# Altium integrated library Quartz Altium_WE-XTAL+(rev20c).IntLib: 317 symbols (part 4 of 5)
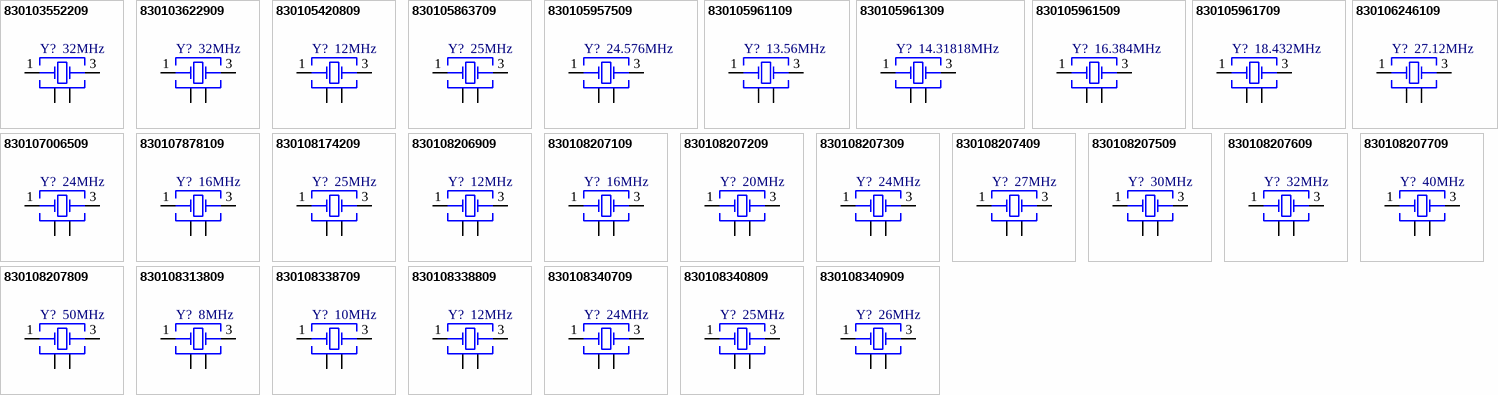
[diagram p19: symbols 830103552209 to 830108340909]

## 830105863709
designator Y?, comment 25MHz
WE-XTAL Quartz Crystal, SMT, CFPX-180, 25MHz, +/-30ppm; Manufacturer Part Number: 830105863709; Manufacturer: Wurth Elektronik; Load Capacitance: 12pF; ComponentLink1Description: Manufacturer; ComponentLink1URL: http://www.we-online.de; ComponentLink2Description: Datasheet; ComponentLink2URL: https://www.we-online.com/catalog/datasheet/830105863709.pdf; Operating Temperature: -40 to +85degC; Packaging: Tape and Reel; Published Date: November 2020; Size: CFPX-180; Frequency Stability: +/-30ppm; Frequency: 25MHz; Frequency Tolerance: +/-30ppm; Mounting Technology: SMT
footprint WE-XTAL_CFPX-180
pins: 1 Crystal, 2 GND&Lid, 3 Crystal, 4 GND&Lid

## 830105957509
designator Y?, comment 24.576MHz
WE-XTAL Quartz Crystal, SMT, CFPX-180, 24.576MHz, +/-20ppm; Manufacturer Part Number: 830105957509; Manufacturer: Wurth Elektronik; Frequency Stability: +/-30ppm; Load Capacitance: 18pF; ComponentLink1Description: Manufacturer; ComponentLink1URL: http://www.we-online.de; ComponentLink2Description: Datasheet; ComponentLink2URL: https://katalog.we-online.com/pbs/datasheet/830105957509.pdf; Operating Temperature: -40 to +85degC; Packaging: Tape and Reel; Published Date: July 2020; Size: CFPX-180; Frequency: 24.576MHz; Frequency Tolerance: +/-20ppm; Mounting Technology: SMT
footprint WE-XTAL_CFPX-180
pins: 1 Crystal, 2 GND, 3 Crystal, 4 GND

## 830105961109
designator Y?, comment 13.56MHz
WE-XTAL Quartz Crystal, SMT, CFPX-180, 13.56MHz, +/-20ppm; Manufacturer Part Number: 830105961109; Manufacturer: Wurth Elektronik; Frequency Stability: +/-30ppm; Load Capacitance: 18pF; ComponentLink1Description: Manufacturer; ComponentLink1URL: http://www.we-online.de; ComponentLink2Description: Datasheet; ComponentLink2URL: https://www.we-online.com/catalog/datasheet/830105961109.pdf; Operating Temperature: -40 to +85degC; Packaging: Tape and Reel; Published Date: November 2020; Size: CFPX-180; Frequency: 13.56MHz; Frequency Tolerance: +/-20ppm; Mounting Technology: SMT
footprint WE-XTAL_CFPX-180
pins: 1 Crystal, 2 GND&Lid, 3 Crystal, 4 GND&Lid

## 830105961309
designator Y?, comment 14.31818MHz
WE-XTAL Quartz Crystal, SMT, CFPX-180, 14.31818MHz, +/-20ppm; Manufacturer Part Number: 830105961309; Manufacturer: Wurth Elektronik; Frequency Stability: +/-30ppm; Load Capacitance: 18pF; ComponentLink1Description: Manufacturer; ComponentLink1URL: http://www.we-online.de; ComponentLink2Description: Datasheet; ComponentLink2URL: https://www.we-online.com/catalog/datasheet/830105961309.pdf; Operating Temperature: -40 to +85degC; Packaging: Tape and Reel; Published Date: November 2020; Size: CFPX-180; Frequency: 14.31818MHz; Frequency Tolerance: +/-20ppm; Mounting Technology: SMT
footprint WE-XTAL_CFPX-180
pins: 1 Crystal, 2 GND, 3 Crystal, 4 GND

## 830105961509
designator Y?, comment 16.384MHz
WE-XTAL Quartz Crystal, SMT, CFPX-180, 16.384MHz, +/-20ppm; Manufacturer Part Number: 830105961509; Manufacturer: Wurth Elektronik; Frequency Stability: +/-30ppm; Load Capacitance: 18pF; ComponentLink1Description: Manufacturer; ComponentLink1URL: http://www.we-online.de; ComponentLink2Description: Datasheet; ComponentLink2URL: https://katalog.we-online.com/pbs/datasheet/830105961509.pdf; Operating Temperature: -40 to +85degC; Packaging: Tape and Reel; Published Date: July 2020; Size: CFPX-180; Frequency: 16.384MHz; Frequency Tolerance: +/-20ppm; Mounting Technology: SMT
footprint WE-XTAL_CFPX-180
pins: 1 Crystal, 2 GND, 3 Crystal, 4 GND

## 830105961709
designator Y?, comment 18.432MHz
WE-XTAL Quartz Crystal, SMT, CFPX-180, 18.432MHz, +/-20ppm; Manufacturer Part Number: 830105961709; Manufacturer: Wurth Elektronik; Frequency Stability: +/-30ppm; Load Capacitance: 18pF; ComponentLink1Description: Manufacturer; ComponentLink1URL: http://www.we-online.de; ComponentLink2Description: Datasheet; ComponentLink2URL: https://katalog.we-online.com/pbs/datasheet/830105961709.pdf; Operating Temperature: -40 to +85degC; Packaging: Tape and Reel; Published Date: July 2020; Size: CFPX-180; Frequency: 18.432MHz; Frequency Tolerance: +/-20ppm; Mounting Technology: SMT
footprint WE-XTAL_CFPX-180
pins: 1 Crystal, 2 GND, 3 Crystal, 4 GND

## 830106246109
designator Y?, comment 27.12MHz
WE-XTAL Quartz Crystal, SMT, CFPX-180, 27.12MHz, +/-10ppm; Manufacturer Part Number: 830106246109; Manufacturer: Wurth Elektronik; Frequency Stability: +/-20ppm; Load Capacitance: 10pF; ComponentLink1Description: Manufacturer; ComponentLink1URL: http://www.we-online.de; ComponentLink2Description: Datasheet; ComponentLink2URL: https://katalog.we-online.com/pbs/datasheet/830106246109.pdf; Operating Temperature: -40 to +85degC; Packaging: Tape and Reel; Published Date: July 2020; Size: CFPX-180; Frequency: 27.12MHz; Frequency Tolerance: +/-10ppm; Mounting Technology: SMT
footprint WE-XTAL_CFPX-180
pins: 1 Crystal, 2 GND, 3 Crystal, 4 GND

## 830107006509
designator Y?, comment 24MHz
WE-XTAL Quartz Crystal, SMT, CFPX-180, 24MHz, +/-10ppm; Manufacturer Part Number: 830107006509; Manufacturer: Wurth Elektronik; Frequency Stability: +/-15ppm; Load Capacitance: 9pF; ComponentLink1Description: Manufacturer; ComponentLink1URL: http://www.we-online.de; ComponentLink2Description: Datasheet; ComponentLink2URL: https://katalog.we-online.com/pbs/datasheet/830107006509.pdf; Operating Temperature: -40 to +85degC; Packaging: Tape and Reel; Published Date: July 2020; Size: CFPX-180; Frequency: 24MHz; Frequency Tolerance: +/-10ppm; Mounting Technology: SMT
footprint WE-XTAL_CFPX-180
pins: 1 Crystal, 2 GND, 3 Crystal, 4 GND

## 830107878109
designator Y?, comment 16MHz
WE-XTAL Quartz Crystal, SMT, CFPX-180, 16MHz, +/-30ppm; Manufacturer Part Number: 830107878109; Manufacturer: Wurth Elektronik; Frequency Stability: +/-50ppm; Load Capacitance: 12pF; ComponentLink1Description: Manufacturer; ComponentLink1URL: http://www.we-online.de; ComponentLink2Description: Datasheet; ComponentLink2URL: https://www.we-online.com/catalog/datasheet/830107878109.pdf; Operating Temperature: -40 to +125degC; Packaging: Tape and Reel; Published Date: November 2020; Size: CFPX-180; Frequency: 16MHz; Frequency Tolerance: +/-30ppm; Mounting Technology: SMT
footprint WE-XTAL_CFPX-180
pins: 1 Crystal, 2 GND&Lid, 3 Crystal, 4 GND&Lid

## 830108174209
designator Y?, comment 25MHz
WE-XTAL Quartz Crystal, SMT, CFPX-180, 25MHz, +/-10ppm; Manufacturer Part Number: 830108174209; Manufacturer: Wurth Elektronik; Frequency Stability: +/-15ppm; Load Capacitance: 10pF; ComponentLink1Description: Manufacturer; ComponentLink1URL: http://www.we-online.de; ComponentLink2Description: Datasheet; ComponentLink2URL: https://katalog.we-online.com/pbs/datasheet/830108174209.pdf; Operating Temperature: -40 to +85degC; Packaging: Tape and Reel; Published Date: July 2020; Size: CFPX-180; Frequency: 25MHz; Frequency Tolerance: +/-10ppm; Mounting Technology: SMT
footprint WE-XTAL_CFPX-180
pins: 1 Crystal, 2 GND, 3 Crystal, 4 GND

## 830108206909
designator Y?, comment 12MHz
WE-XTAL Quartz Crystal, SMT, CFPX-180, 12MHz, +/-10ppm; Manufacturer Part Number: 830108206909; Manufacturer: Wurth Elektronik; Frequency Stability: +/-20ppm; Load Capacitance: 8pF; ComponentLink1Description: Manufacturer; ComponentLink1URL: http://www.we-online.de; ComponentLink2Description: Datasheet; ComponentLink2URL: https://katalog.we-online.com/pbs/datasheet/830108206909.pdf; Operating Temperature: -40 to +85degC; Packaging: Tape and Reel; Published Date: July 2020; Size: CFPX-180; Frequency: 12MHz; Frequency Tolerance: +/-10ppm; Mounting Technology: SMT
footprint WE-XTAL_CFPX-180
pins: 1 Crystal, 2 GND, 3 Crystal, 4 GND

## 830108207109
designator Y?, comment 16MHz
WE-XTAL Quartz Crystal, SMT, CFPX-180, 16MHz, +/-10ppm; Manufacturer Part Number: 830108207109; Manufacturer: Wurth Elektronik; Frequency Stability: +/-20ppm; Load Capacitance: 8pF; ComponentLink1Description: Manufacturer; ComponentLink1URL: http://www.we-online.de; ComponentLink2Description: Datasheet; ComponentLink2URL: https://katalog.we-online.com/pbs/datasheet/830108207109.pdf; Operating Temperature: -40 to +85degC; Packaging: Tape and Reel; Published Date: July 2020; Size: CFPX-180; Frequency: 16MHz; Frequency Tolerance: +/-10ppm; Mounting Technology: SMT
footprint WE-XTAL_CFPX-180
pins: 1 Crystal, 2 GND, 3 Crystal, 4 GND

## 830108207209
designator Y?, comment 20MHz
WE-XTAL Quartz Crystal, SMT, CFPX-180, 20MHz, +/-10ppm; Manufacturer Part Number: 830108207209; Manufacturer: Wurth Elektronik; Frequency Stability: +/-20ppm; Load Capacitance: 8pF; ComponentLink1Description: Manufacturer; ComponentLink1URL: http://www.we-online.de; ComponentLink2Description: Datasheet; ComponentLink2URL: https://katalog.we-online.com/pbs/datasheet/830108207209.pdf; Operating Temperature: -40 to +85degC; Packaging: Tape and Reel; Published Date: July 2020; Size: CFPX-180; Frequency: 20MHz; Frequency Tolerance: +/-10ppm; Mounting Technology: SMT
footprint WE-XTAL_CFPX-180
pins: 1 Crystal, 2 GND, 3 Crystal, 4 GND

## 830108207309
designator Y?, comment 24MHz
WE-XTAL Quartz Crystal, SMT, CFPX-180, 24MHz, +/-10ppm; Manufacturer Part Number: 830108207309; Manufacturer: Wurth Elektronik; Frequency Stability: +/-20ppm; Load Capacitance: 8pF; ComponentLink1Description: Manufacturer; ComponentLink1URL: http://www.we-online.de; ComponentLink2Description: Datasheet; ComponentLink2URL: https://katalog.we-online.com/pbs/datasheet/830108207309.pdf; Operating Temperature: -40 to +85degC; Packaging: Tape and Reel; Published Date: July 2020; Size: CFPX-180; Frequency: 24MHz; Frequency Tolerance: +/-10ppm; Mounting Technology: SMT
footprint WE-XTAL_CFPX-180
pins: 1 Crystal, 2 GND, 3 Crystal, 4 GND

## 830108207409
designator Y?, comment 27MHz
WE-XTAL Quartz Crystal, SMT, CFPX-180, 27MHz, +/-10ppm; Manufacturer Part Number: 830108207409; Manufacturer: Wurth Elektronik; Frequency Stability: +/-20ppm; Load Capacitance: 8pF; ComponentLink1Description: Manufacturer; ComponentLink1URL: http://www.we-online.de; ComponentLink2Description: Datasheet; ComponentLink2URL: https://katalog.we-online.com/pbs/datasheet/830108207409.pdf; Operating Temperature: -40 to +85degC; Packaging: Tape and Reel; Published Date: July 2020; Size: CFPX-180; Frequency: 27MHz; Frequency Tolerance: +/-10ppm; Mounting Technology: SMT
footprint WE-XTAL_CFPX-180
pins: 1 Crystal, 2 GND, 3 Crystal, 4 GND

## 830108207509
designator Y?, comment 30MHz
WE-XTAL Quartz Crystal, SMT, CFPX-180, 30MHz, +/-10ppm; Manufacturer Part Number: 830108207509; Manufacturer: Wurth Elektronik; Frequency Stability: +/-20ppm; Load Capacitance: 8pF; ComponentLink1Description: Manufacturer; ComponentLink1URL: http://www.we-online.de; ComponentLink2Description: Datasheet; ComponentLink2URL: https://katalog.we-online.com/pbs/datasheet/830108207509.pdf; Operating Temperature: -40 to +85degC; Packaging: Tape and Reel; Published Date: July 2020; Size: CFPX-180; Frequency: 30MHz; Frequency Tolerance: +/-10ppm; Mounting Technology: SMT
footprint WE-XTAL_CFPX-180
pins: 1 Crystal, 2 GND, 3 Crystal, 4 GND

## 830108207609
designator Y?, comment 32MHz
WE-XTAL Quartz Crystal, SMT, CFPX-180, 32MHz, +/-10ppm; Manufacturer Part Number: 830108207609; Manufacturer: Wurth Elektronik; Frequency Stability: +/-20ppm; Load Capacitance: 8pF; ComponentLink1Description: Manufacturer; ComponentLink1URL: http://www.we-online.de; ComponentLink2Description: Datasheet; ComponentLink2URL: https://katalog.we-online.com/pbs/datasheet/830108207609.pdf; Operating Temperature: -40 to +85degC; Packaging: Tape and Reel; Published Date: July 2020; Size: CFPX-180; Frequency: 32MHz; Frequency Tolerance: +/-10ppm; Mounting Technology: SMT
footprint WE-XTAL_CFPX-180
pins: 1 Crystal, 2 GND, 3 Crystal, 4 GND

## 830108207709
designator Y?, comment 40MHz
WE-XTAL Quartz Crystal, SMT, CFPX-180, 40MHz, +/-10ppm; Manufacturer Part Number: 830108207709; Manufacturer: Wurth Elektronik; Frequency Stability: +/-20ppm; Load Capacitance: 8pF; ComponentLink1Description: Manufacturer; ComponentLink1URL: http://www.we-online.de; ComponentLink2Description: Datasheet; ComponentLink2URL: https://katalog.we-online.com/pbs/datasheet/830108207709.pdf; Operating Temperature: -40 to +85degC; Packaging: Tape and Reel; Published Date: July 2020; Size: CFPX-180; Frequency: 40MHz; Frequency Tolerance: +/-10ppm; Mounting Technology: SMT
footprint WE-XTAL_CFPX-180
pins: 1 Crystal, 2 GND, 3 Crystal, 4 GND

## 830108207809
designator Y?, comment 50MHz
WE-XTAL Quartz Crystal, SMT, CFPX-180, 50MHz, +/-10ppm; Manufacturer Part Number: 830108207809; Manufacturer: Wurth Elektronik; Frequency Stability: +/-20ppm; Load Capacitance: 8pF; ComponentLink1Description: Manufacturer; ComponentLink1URL: http://www.we-online.de; ComponentLink2Description: Datasheet; ComponentLink2URL: https://katalog.we-online.com/pbs/datasheet/830108207809.pdf; Operating Temperature: -40 to +85degC; Packaging: Tape and Reel; Published Date: July 2020; Size: CFPX-180; Frequency: 50MHz; Frequency Tolerance: +/-10ppm; Mounting Technology: SMT
footprint WE-XTAL_CFPX-180 (Quartz Crystal, size CFPX-180, body 3.4x2.7mm)
pins: 1 Crystal, 2 GND, 3 Crystal, 4 GND

## 830108313809
designator Y?, comment 8MHz
WE-XTAL Quartz Crystal, SMT, CFPX-180, 8MHz, +/-30ppm; Manufacturer Part Number: 830108313809; Manufacturer: Wurth Elektronik; Frequency Stability: +/-50ppm; Load Capacitance: 12pF; ComponentLink1Description: Manufacturer; ComponentLink1URL: http://www.we-online.de; ComponentLink2Description: Datasheet; ComponentLink2URL: https://www.we-online.com/catalog/datasheet/830108313809.pdf; Operating Temperature: -40 to +85degC; Packaging: Tape and Reel; Published Date: November 2020; Size: CFPX-180; Frequency: 8MHz; Frequency Tolerance: +/-30ppm; Mounting Technology: SMT
footprint WE-XTAL_CFPX-180
pins: 1 Crystal, 2 GND&Lid, 3 Crystal, 4 GND&Lid

## 830108338709
designator Y?, comment 10MHz
WE-XTAL Quartz Crystal, SMT, CFPX-180, 10MHz, +/-20ppm; Manufacturer Part Number: 830108338709; Manufacturer: Wurth Elektronik; Frequency Stability: +/-50ppm; Load Capacitance: 12pF; ComponentLink1Description: Manufacturer; ComponentLink1URL: http://www.we-online.de; ComponentLink2Description: Datasheet; ComponentLink2URL: https://www.we-online.com/catalog/datasheet/830108338709.pdf; Operating Temperature: -40 to +105degC; Packaging: Tape and Reel; Published Date: November 2020; Size: CFPX-180; Frequency: 10MHz; Frequency Tolerance: +/-20ppm; Mounting Technology: SMT
footprint WE-XTAL_CFPX-180
pins: 1 Crystal, 2 GND&Lid, 3 Crystal, 4 GND&Lid

## 830108338809
designator Y?, comment 12MHz
WE-XTAL Quartz Crystal, SMT, CFPX-180, 12MHz, +/-20ppm; Manufacturer Part Number: 830108338809; Manufacturer: Wurth Elektronik; Frequency Stability: +/-30ppm; Load Capacitance: 12pF; ComponentLink1Description: Manufacturer; ComponentLink1URL: http://www.we-online.de; ComponentLink2Description: Datasheet; ComponentLink2URL: https://www.we-online.com/catalog/datasheet/830108338809.pdf; Operating Temperature: -40 to +105degC; Packaging: Tape and Reel; Published Date: November 2020; Size: CFPX-180; Frequency: 12MHz; Frequency Tolerance: +/-20ppm; Mounting Technology: SMT
footprint WE-XTAL_CFPX-180
pins: 1 Crystal, 2 GND&Lid, 3 Crystal, 4 GND&Lid

## 830108340709
designator Y?, comment 24MHz
WE-XTAL Quartz Crystal, SMT, CFPX-180, 24MHz, +/-20ppm; Manufacturer Part Number: 830108340709; Manufacturer: Wurth Elektronik; Frequency Stability: +/-50ppm; Load Capacitance: 12pF; ComponentLink1Description: Manufacturer; ComponentLink1URL: http://www.we-online.de; ComponentLink2Description: Datasheet; ComponentLink2URL: https://www.we-online.com/catalog/datasheet/830108340709.pdf; Operating Temperature: -40 to +105degC; Packaging: Tape and Reel; Published Date: November 2020; Size: CFPX-180; Frequency: 24MHz; Frequency Tolerance: +/-20ppm; Mounting Technology: SMT
footprint WE-XTAL_CFPX-180
pins: 1 Crystal, 2 GND&Lid, 3 Crystal, 4 GND&Lid

## 830108340809
designator Y?, comment 25MHz
WE-XTAL Quartz Crystal, SMT, CFPX-180, 25MHz, +/-20ppm; Manufacturer Part Number: 830108340809; Manufacturer: Wurth Elektronik; Frequency Stability: +/-30ppm; Load Capacitance: 12pF; ComponentLink1Description: Manufacturer; ComponentLink1URL: http://www.we-online.de; ComponentLink2Description: Datasheet; ComponentLink2URL: https://www.we-online.com/catalog/datasheet/830108340809.pdf; Operating Temperature: -40 to +105degC; Packaging: Tape and Reel; Published Date: November 2020; Size: CFPX-180; Frequency: 25MHz; Frequency Tolerance: +/-20ppm; Mounting Technology: SMT
footprint WE-XTAL_CFPX-180
pins: 1 Crystal, 2 GND&Lid, 3 Crystal, 4 GND&Lid

## 830108340909
designator Y?, comment 26MHz
WE-XTAL Quartz Crystal, SMT, CFPX-180, 26MHz, +/-10ppm; Manufacturer Part Number: 830108340909; Manufacturer: Wurth Elektronik; Frequency Stability: +/-20ppm; Load Capacitance: 12pF; ComponentLink1Description: Manufacturer; ComponentLink1URL: http://www.we-online.de; ComponentLink2Description: Datasheet; ComponentLink2URL: https://www.we-online.com/catalog/datasheet/830108340909.pdf; Operating Temperature: -40 to +105degC; Packaging: Tape and Reel; Published Date: November 2020; Size: CFPX-180; Frequency: 26MHz; Frequency Tolerance: +/-10ppm; Mounting Technology: SMT
footprint WE-XTAL_CFPX-180
pins: 1 Crystal, 2 GND&Lid, 3 Crystal, 4 GND&Lid


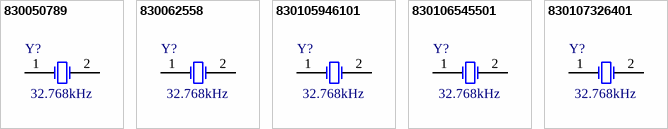
[diagram p12: symbols 830050789 to 830107326401]

## 830050789
designator Y?, comment 32.768kHz
WE-XTAL Watch Crystal, SMT, IQXC-25, 32.768kHz, +/-20ppm; Manufacturer Part Number: 830050789; Manufacturer: Wurth Elektronik; Load Capacitance: 12.5pF; ComponentLink1Description: Manufacturer; ComponentLink1URL: http://www.we-online.de; ComponentLink2Description: Datasheet; ComponentLink2URL: https://katalog.we-online.com/pbs/datasheet/830050789.pdf; Operating Temperature: -40 to +85degC; Packaging: Tape and Reel; Published Date: July 2020; Size: IQXC-25; Frequency Stability: -; Frequency: 32.768kHz; Frequency Tolerance: +/-20ppm; Mounting Technology: SMT
footprint WE-XTAL_IQXC-25
pins: 1 OSC1, 2 OSC2

## 830062558
designator Y?, comment 32.768kHz
WE-XTAL Watch Crystal, SMT, IQXC-25, 32.768kHz, +/-10ppm; Manufacturer Part Number: 830062558; Manufacturer: Wurth Elektronik; Load Capacitance: 9pF; ComponentLink1Description: Manufacturer; ComponentLink1URL: http://www.we-online.de; ComponentLink2Description: Datasheet; ComponentLink2URL: https://katalog.we-online.com/pbs/datasheet/830062558.pdf; Operating Temperature: -40 to +85degC; Packaging: Tape and Reel; Published Date: July 2020; Size: IQXC-25; Frequency Stability: -; Frequency: 32.768kHz; Frequency Tolerance: +/-10ppm; Mounting Technology: SMT
footprint WE-XTAL_IQXC-25
pins: 1 OSC1, 2 OSC2

## 830105946101
designator Y?, comment 32.768kHz
WE-XTAL Watch Crystal, SMT, IQXC-25, 32.768kHz, +/-20ppm; Manufacturer Part Number: 830105946101; Manufacturer: Wurth Elektronik; Load Capacitance: 7pF; ComponentLink1Description: Manufacturer; ComponentLink1URL: http://www.we-online.de; ComponentLink2Description: Datasheet; ComponentLink2URL: https://katalog.we-online.com/pbs/datasheet/830105946101.pdf; Operating Temperature: -40 to +85degC; Packaging: Tape and Reel; Published Date: July 2020; Size: IQXC-25; Frequency Stability: -; Frequency: 32.768kHz; Frequency Tolerance: +/-20ppm; Mounting Technology: SMT
footprint WE-XTAL_IQXC-25
pins: 1 OSC1, 2 OSC2

## 830106545501
designator Y?, comment 32.768kHz
WE-XTAL Watch Crystal, SMT, IQXC-25, 32.768kHz, +/-20ppm; Manufacturer Part Number: 830106545501; Manufacturer: Wurth Elektronik; Load Capacitance: 6pF; ComponentLink1Description: Manufacturer; ComponentLink1URL: http://www.we-online.de; ComponentLink2Description: Datasheet; ComponentLink2URL: https://katalog.we-online.com/pbs/datasheet/830106545501.pdf; Operating Temperature: -40 to +85degC; Packaging: Tape and Reel; Published Date: July 2020; Size: IQXC-25; Frequency Stability: -; Frequency: 32.768kHz; Frequency Tolerance: +/-20ppm; Mounting Technology: SMT
footprint WE-XTAL_IQXC-25
pins: 1 OSC1, 2 OSC2

## 830107326401
designator Y?, comment 32.768kHz
WE-XTAL Watch Crystal, SMT, IQXC-25, 32.768kHz, +/-20ppm; Manufacturer Part Number: 830107326401; Manufacturer: Wurth Elektronik; Load Capacitance: 4pF; ComponentLink1Description: Manufacturer; ComponentLink1URL: http://www.we-online.de; ComponentLink2Description: Datasheet; ComponentLink2URL: https://katalog.we-online.com/pbs/datasheet/830107326401.pdf; Operating Temperature: -40 to +85degC; Packaging: Tape and Reel; Published Date: July 2020; Size: IQXC-25; Frequency Stability: -; Frequency: 32.768kHz; Frequency Tolerance: +/-20ppm; Mounting Technology: SMT
footprint WE-XTAL_IQXC-25
pins: 1 OSC1, 2 OSC2


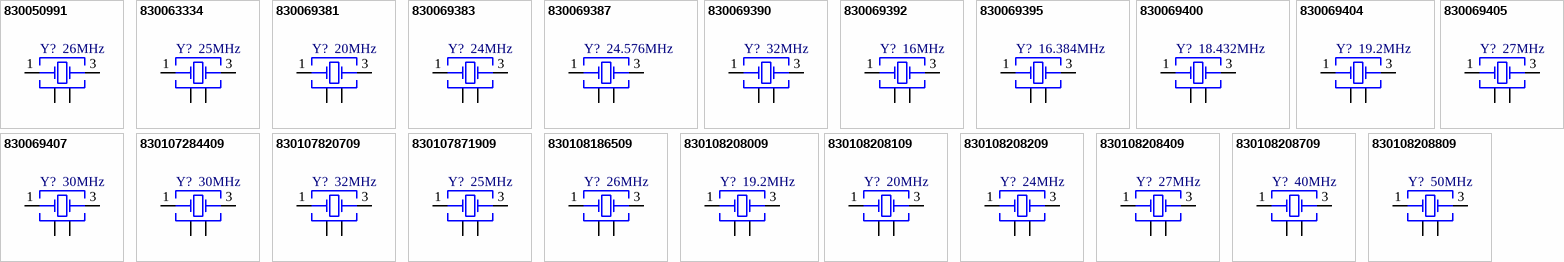
[diagram p13: symbols 830050991 to 830108208809]

## 830050991
designator Y?, comment 26MHz
WE-XTAL Quartz Crystal, SMT, CFPX-218, 26MHz, +/-20ppm; Manufacturer Part Number: 830050991; Manufacturer: Wurth Elektronik; Load Capacitance: 10pF; ComponentLink1Description: Manufacturer; ComponentLink1URL: http://www.we-online.de; ComponentLink2Description: Datasheet; ComponentLink2URL: https://katalog.we-online.com/pbs/datasheet/830050991.pdf; Operating Temperature: -40 to +85degC; Packaging: Tape and Reel; Published Date: July 2020; Size: CFPX-218; Frequency Stability: +/-20ppm; Frequency: 26MHz; Frequency Tolerance: +/-20ppm; Mounting Technology: SMT
footprint WE-XTAL_CFPX-218
pins: 1 Crystal, 2 GND, 3 Crystal, 4 GND

## 830063334
designator Y?, comment 25MHz
WE-XTAL Quartz Crystal, SMT, CFPX-218, 25MHz, +/-20ppm; Manufacturer Part Number: 830063334; Manufacturer: Wurth Elektronik; Load Capacitance: 10pF; ComponentLink1Description: Manufacturer; ComponentLink1URL: http://www.we-online.de; ComponentLink2Description: Datasheet; ComponentLink2URL: https://katalog.we-online.com/pbs/datasheet/830063334.pdf; Operating Temperature: -40 to +85degC; Packaging: Tape and Reel; Published Date: July 2020; Size: CFPX-218; Frequency Stability: +/-20ppm; Frequency: 25MHz; Frequency Tolerance: +/-20ppm; Mounting Technology: SMT
footprint WE-XTAL_CFPX-218
pins: 1 Crystal, 2 GND, 3 Crystal, 4 GND

## 830069381
designator Y?, comment 20MHz
WE-XTAL Quartz Crystal, SMT, CFPX-218, 20MHz, +/-20ppm; Manufacturer Part Number: 830069381; Manufacturer: Wurth Elektronik; Load Capacitance: 10pF; ComponentLink1Description: Manufacturer; ComponentLink1URL: http://www.we-online.de; ComponentLink2Description: Datasheet; ComponentLink2URL: https://katalog.we-online.com/pbs/datasheet/830069381.pdf; Operating Temperature: -40 to +85degC; Packaging: Tape and Reel; Published Date: July 2020; Size: CFPX-218; Frequency Stability: +/-20ppm; Frequency: 20MHz; Frequency Tolerance: +/-20ppm; Mounting Technology: SMT
footprint WE-XTAL_CFPX-218
pins: 1 Crystal, 2 GND, 3 Crystal, 4 GND

## 830069383
designator Y?, comment 24MHz
WE-XTAL Quartz Crystal, SMT, CFPX-218, 24MHz, +/-20ppm; Manufacturer Part Number: 830069383; Manufacturer: Wurth Elektronik; Load Capacitance: 10pF; ComponentLink1Description: Manufacturer; ComponentLink1URL: http://www.we-online.de; ComponentLink2Description: Datasheet; ComponentLink2URL: https://katalog.we-online.com/pbs/datasheet/830069383.pdf; Operating Temperature: -40 to +85degC; Packaging: Tape and Reel; Published Date: July 2020; Size: CFPX-218; Frequency Stability: +/-20ppm; Frequency: 24MHz; Frequency Tolerance: +/-20ppm; Mounting Technology: SMT
footprint WE-XTAL_CFPX-218
pins: 1 Crystal, 2 GND, 3 Crystal, 4 GND

## 830069387
designator Y?, comment 24.576MHz
WE-XTAL Quartz Crystal, SMT, CFPX-218, 24.576MHz, +/-20ppm; Manufacturer Part Number: 830069387; Manufacturer: Wurth Elektronik; Load Capacitance: 10pF; ComponentLink1Description: Manufacturer; ComponentLink1URL: http://www.we-online.de; ComponentLink2Description: Datasheet; ComponentLink2URL: https://katalog.we-online.com/pbs/datasheet/830069387.pdf; Operating Temperature: -40 to +85degC; Packaging: Tape and Reel; Published Date: July 2020; Size: CFPX-218; Frequency Stability: +/-20ppm; Frequency: 24.576MHz; Frequency Tolerance: +/-20ppm; Mounting Technology: SMT
footprint WE-XTAL_CFPX-218
pins: 1 Crystal, 2 GND, 3 Crystal, 4 GND

## 830069390
designator Y?, comment 32MHz
WE-XTAL Quartz Crystal, SMT, CFPX-218, 32MHz, +/-20ppm; Manufacturer Part Number: 830069390; Manufacturer: Wurth Elektronik; Load Capacitance: 10pF; ComponentLink1Description: Manufacturer; ComponentLink1URL: http://www.we-online.de; ComponentLink2Description: Datasheet; ComponentLink2URL: https://katalog.we-online.com/pbs/datasheet/830069390.pdf; Operating Temperature: -40 to +85degC; Packaging: Tape and Reel; Published Date: July 2020; Size: CFPX-218; Frequency Stability: +/-20ppm; Frequency: 32MHz; Frequency Tolerance: +/-20ppm; Mounting Technology: SMT
footprint WE-XTAL_CFPX-218
pins: 1 Crystal, 2 GND, 3 Crystal, 4 GND

## 830069392
designator Y?, comment 16MHz
WE-XTAL Quartz Crystal, SMT, CFPX-218, 16MHz, +/-20ppm; Manufacturer Part Number: 830069392; Manufacturer: Wurth Elektronik; Load Capacitance: 10pF; ComponentLink1Description: Manufacturer; ComponentLink1URL: http://www.we-online.de; ComponentLink2Description: Datasheet; ComponentLink2URL: https://katalog.we-online.com/pbs/datasheet/830069392.pdf; Operating Temperature: -40 to +85degC; Packaging: Tape and Reel; Published Date: July 2020; Size: CFPX-218; Frequency Stability: +/-20ppm; Frequency: 16MHz; Frequency Tolerance: +/-20ppm; Mounting Technology: SMT
footprint WE-XTAL_CFPX-218
pins: 1 Crystal, 2 GND, 3 Crystal, 4 GND

## 830069395
designator Y?, comment 16.384MHz
WE-XTAL Quartz Crystal, SMT, CFPX-218, 16.384MHz, +/-20ppm; Manufacturer Part Number: 830069395; Manufacturer: Wurth Elektronik; Load Capacitance: 10pF; ComponentLink1Description: Manufacturer; ComponentLink1URL: http://www.we-online.de; ComponentLink2Description: Datasheet; ComponentLink2URL: https://katalog.we-online.com/pbs/datasheet/830069395.pdf; Operating Temperature: -40 to +85degC; Packaging: Tape and Reel; Published Date: July 2020; Size: CFPX-218; Frequency Stability: +/-20ppm; Frequency: 16.384MHz; Frequency Tolerance: +/-20ppm; Mounting Technology: SMT
footprint WE-XTAL_CFPX-218
pins: 1 Crystal, 2 GND, 3 Crystal, 4 GND

## 830069400
designator Y?, comment 18.432MHz
WE-XTAL Quartz Crystal, SMT, CFPX-218, 18.432MHz, +/-20ppm; Manufacturer Part Number: 830069400; Manufacturer: Wurth Elektronik; Load Capacitance: 18pF; ComponentLink1Description: Manufacturer; ComponentLink1URL: http://www.we-online.de; ComponentLink2Description: Datasheet; ComponentLink2URL: https://katalog.we-online.com/pbs/datasheet/830069400.pdf; Operating Temperature: -40 to +85degC; Packaging: Tape and Reel; Published Date: July 2020; Size: CFPX-218; Frequency Stability: +/-20ppm; Frequency: 18.432MHz; Frequency Tolerance: +/-20ppm; Mounting Technology: SMT
footprint WE-XTAL_CFPX-218
pins: 1 Crystal, 2 GND, 3 Crystal, 4 GND

## 830069404
designator Y?, comment 19.2MHz
WE-XTAL Quartz Crystal, SMT, CFPX-218, 19.2MHz, +/-20ppm; Manufacturer Part Number: 830069404; Manufacturer: Wurth Elektronik; Load Capacitance: 10pF; ComponentLink1Description: Manufacturer; ComponentLink1URL: http://www.we-online.de; ComponentLink2Description: Datasheet; ComponentLink2URL: https://katalog.we-online.com/pbs/datasheet/830069404.pdf; Operating Temperature: -40 to +85degC; Packaging: Tape and Reel; Published Date: July 2020; Size: CFPX-218; Frequency Stability: +/-20ppm; Frequency: 19.2MHz; Frequency Tolerance: +/-20ppm; Mounting Technology: SMT
footprint WE-XTAL_CFPX-218
pins: 1 Crystal, 2 GND, 3 Crystal, 4 GND

## 830069405
designator Y?, comment 27MHz
WE-XTAL Quartz Crystal, SMT, CFPX-218, 27MHz, +/-20ppm; Manufacturer Part Number: 830069405; Manufacturer: Wurth Elektronik; Load Capacitance: 18pF; ComponentLink1Description: Manufacturer; ComponentLink1URL: http://www.we-online.de; ComponentLink2Description: Datasheet; ComponentLink2URL: https://katalog.we-online.com/pbs/datasheet/830069405.pdf; Operating Temperature: -40 to +85degC; Packaging: Tape and Reel; Published Date: July 2020; Size: CFPX-218; Frequency Stability: +/-20ppm; Frequency: 27MHz; Frequency Tolerance: +/-20ppm; Mounting Technology: SMT
footprint WE-XTAL_CFPX-218
pins: 1 Crystal, 2 GND, 3 Crystal, 4 GND

## 830069407
designator Y?, comment 30MHz
WE-XTAL Quartz Crystal, SMT, CFPX-218, 30MHz, +/-20ppm; Manufacturer Part Number: 830069407; Manufacturer: Wurth Elektronik; Load Capacitance: 10pF; ComponentLink1Description: Manufacturer; ComponentLink1URL: http://www.we-online.de; ComponentLink2Description: Datasheet; ComponentLink2URL: https://katalog.we-online.com/pbs/datasheet/830069407.pdf; Operating Temperature: -40 to +85degC; Packaging: Tape and Reel; Published Date: July 2020; Size: CFPX-218; Frequency Stability: +/-20ppm; Frequency: 30MHz; Frequency Tolerance: +/-20ppm; Mounting Technology: SMT
footprint WE-XTAL_CFPX-218
pins: 1 Crystal, 2 GND, 3 Crystal, 4 GND

## 830107284409
designator Y?, comment 30MHz
WE-XTAL Quartz Crystal, SMT, CFPX-218, 30MHz, +/-10ppm; Manufacturer Part Number: 830107284409; Manufacturer: Wurth Elektronik; Load Capacitance: 10pF; ComponentLink1Description: Manufacturer; ComponentLink1URL: http://www.we-online.de; ComponentLink2Description: Datasheet; ComponentLink2URL: https://katalog.we-online.com/pbs/datasheet/830107284409.pdf; Operating Temperature: -20 to +70degC; Packaging: Tape and Reel; Published Date: July 2020; Size: CFPX-218; Frequency Stability: +/-10ppm; Frequency: 30MHz; Frequency Tolerance: +/-10ppm; Mounting Technology: SMT
footprint WE-XTAL_CFPX-218
pins: 1 Crystal, 2 GND, 3 Crystal, 4 GND

## 830107820709
designator Y?, comment 32MHz
WE-XTAL Quartz Crystal, SMT, CFPX-218, 32MHz, +/-10ppm; Manufacturer Part Number: 830107820709; Manufacturer: Wurth Elektronik; Load Capacitance: 10pF; ComponentLink1Description: Manufacturer; ComponentLink1URL: http://www.we-online.de; ComponentLink2Description: Datasheet; ComponentLink2URL: https://katalog.we-online.com/pbs/datasheet/830107820709.pdf; Operating Temperature: -20 to +70degC; Packaging: Tape and Reel; Published Date: July 2020; Size: CFPX-218; Frequency Stability: +/-10ppm; Frequency: 32MHz; Frequency Tolerance: +/-10ppm; Mounting Technology: SMT
footprint WE-XTAL_CFPX-218
pins: 1 Crystal, 2 GND, 3 Crystal, 4 GND

## 830107871909
designator Y?, comment 25MHz
WE-XTAL Quartz Crystal, SMT, CFPX-218, 25MHz, +/-10ppm; Manufacturer Part Number: 830107871909; Manufacturer: Wurth Elektronik; Load Capacitance: 10pF; ComponentLink1Description: Manufacturer; ComponentLink1URL: http://www.we-online.de; ComponentLink2Description: Datasheet; ComponentLink2URL: https://katalog.we-online.com/pbs/datasheet/830107871909.pdf; Operating Temperature: -20 to +70degC; Packaging: Tape and Reel; Published Date: July 2020; Size: CFPX-218; Frequency Stability: +/-10ppm; Frequency: 25MHz; Frequency Tolerance: +/-10ppm; Mounting Technology: SMT
footprint WE-XTAL_CFPX-218
pins: 1 Crystal, 2 GND, 3 Crystal, 4 GND

## 830108186509
designator Y?, comment 26MHz
WE-XTAL Quartz Crystal, SMT, CFPX-218, 26MHz, +/-10ppm; Manufacturer Part Number: 830108186509; Manufacturer: Wurth Elektronik; Load Capacitance: 10pF; ComponentLink1Description: Manufacturer; ComponentLink1URL: http://www.we-online.de; ComponentLink2Description: Datasheet; ComponentLink2URL: https://katalog.we-online.com/pbs/datasheet/830108186509.pdf; Operating Temperature: -20 to +70degC; Packaging: Tape and Reel; Published Date: July 2020; Size: CFPX-218; Frequency Stability: +/-10ppm; Frequency: 26MHz; Frequency Tolerance: +/-10ppm; Mounting Technology: SMT
footprint WE-XTAL_CFPX-218
pins: 1 Crystal, 2 GND, 3 Crystal, 4 GND

## 830108208009
designator Y?, comment 19.2MHz
WE-XTAL Quartz Crystal, SMT, CFPX-218, 19.2MHz, +/-10ppm; Manufacturer Part Number: 830108208009; Manufacturer: Wurth Elektronik; Load Capacitance: 10pF; ComponentLink1Description: Manufacturer; ComponentLink1URL: http://www.we-online.de; ComponentLink2Description: Datasheet; ComponentLink2URL: https://katalog.we-online.com/pbs/datasheet/830108208009.pdf; Operating Temperature: -20 to +70degC; Packaging: Tape and Reel; Published Date: July 2020; Size: CFPX-218; Frequency Stability: +/-10ppm; Frequency: 19.2MHz; Frequency Tolerance: +/-10ppm; Mounting Technology: SMT
footprint WE-XTAL_CFPX-218
pins: 1 Crystal, 2 GND, 3 Crystal, 4 GND

## 830108208109
designator Y?, comment 20MHz
WE-XTAL Quartz Crystal, SMT, CFPX-218, 20MHz, +/-10ppm; Manufacturer Part Number: 830108208109; Manufacturer: Wurth Elektronik; Load Capacitance: 10pF; ComponentLink1Description: Manufacturer; ComponentLink1URL: http://www.we-online.de; ComponentLink2Description: Datasheet; ComponentLink2URL: https://katalog.we-online.com/pbs/datasheet/830108208109.pdf; Operating Temperature: -20 to +70degC; Packaging: Tape and Reel; Published Date: July 2020; Size: CFPX-218; Frequency Stability: +/-10ppm; Frequency: 20MHz; Frequency Tolerance: +/-10ppm; Mounting Technology: SMT
footprint WE-XTAL_CFPX-218
pins: 1 Crystal, 2 GND, 3 Crystal, 4 GND

## 830108208209
designator Y?, comment 24MHz
WE-XTAL Quartz Crystal, SMT, CFPX-218, 24MHz, +/-10ppm; Manufacturer Part Number: 830108208209; Manufacturer: Wurth Elektronik; Load Capacitance: 10pF; ComponentLink1Description: Manufacturer; ComponentLink1URL: http://www.we-online.de; ComponentLink2Description: Datasheet; ComponentLink2URL: https://katalog.we-online.com/pbs/datasheet/830108208209.pdf; Operating Temperature: -20 to +70degC; Packaging: Tape and Reel; Published Date: July 2020; Size: CFPX-218; Frequency Stability: +/-10ppm; Frequency: 24MHz; Frequency Tolerance: +/-10ppm; Mounting Technology: SMT
footprint WE-XTAL_CFPX-218
pins: 1 Crystal, 2 GND, 3 Crystal, 4 GND

## 830108208409
designator Y?, comment 27MHz
WE-XTAL Quartz Crystal, SMT, CFPX-218, 27MHz, +/-10ppm; Manufacturer Part Number: 830108208409; Manufacturer: Wurth Elektronik; Load Capacitance: 10pF; ComponentLink1Description: Manufacturer; ComponentLink1URL: http://www.we-online.de; ComponentLink2Description: Datasheet; ComponentLink2URL: https://katalog.we-online.com/pbs/datasheet/830108208409.pdf; Operating Temperature: -20 to +70degC; Packaging: Tape and Reel; Published Date: July 2020; Size: CFPX-218; Frequency Stability: +/-10ppm; Frequency: 27MHz; Frequency Tolerance: +/-10ppm; Mounting Technology: SMT
footprint WE-XTAL_CFPX-218
pins: 1 Crystal, 2 GND, 3 Crystal, 4 GND

## 830108208709
designator Y?, comment 40MHz
WE-XTAL Quartz Crystal, SMT, CFPX-218, 40MHz, +/-10ppm; Manufacturer Part Number: 830108208709; Manufacturer: Wurth Elektronik; Load Capacitance: 10pF; ComponentLink1Description: Manufacturer; ComponentLink1URL: http://www.we-online.de; ComponentLink2Description: Datasheet; ComponentLink2URL: https://katalog.we-online.com/pbs/datasheet/830108208709.pdf; Operating Temperature: -20 to +70degC; Packaging: Tape and Reel; Published Date: July 2020; Size: CFPX-218; Frequency Stability: +/-10ppm; Frequency: 40MHz; Frequency Tolerance: +/-10ppm; Mounting Technology: SMT
footprint WE-XTAL_CFPX-218
pins: 1 Crystal, 2 GND, 3 Crystal, 4 GND

## 830108208809
designator Y?, comment 50MHz
WE-XTAL Quartz Crystal, SMT, CFPX-218, 50MHz, +/-10ppm; Manufacturer Part Number: 830108208809; Manufacturer: Wurth Elektronik; Load Capacitance: 10pF; ComponentLink1Description: Manufacturer; ComponentLink1URL: http://www.we-online.de; ComponentLink2Description: Datasheet; ComponentLink2URL: https://katalog.we-online.com/pbs/datasheet/830108208809.pdf; Operating Temperature: -20 to +70degC; Packaging: Tape and Reel; Published Date: July 2020; Size: CFPX-218; Frequency Stability: +/-10ppm; Frequency: 50MHz; Frequency Tolerance: +/-10ppm; Mounting Technology: SMT
footprint WE-XTAL_CFPX-218
pins: 1 Crystal, 2 GND, 3 Crystal, 4 GND


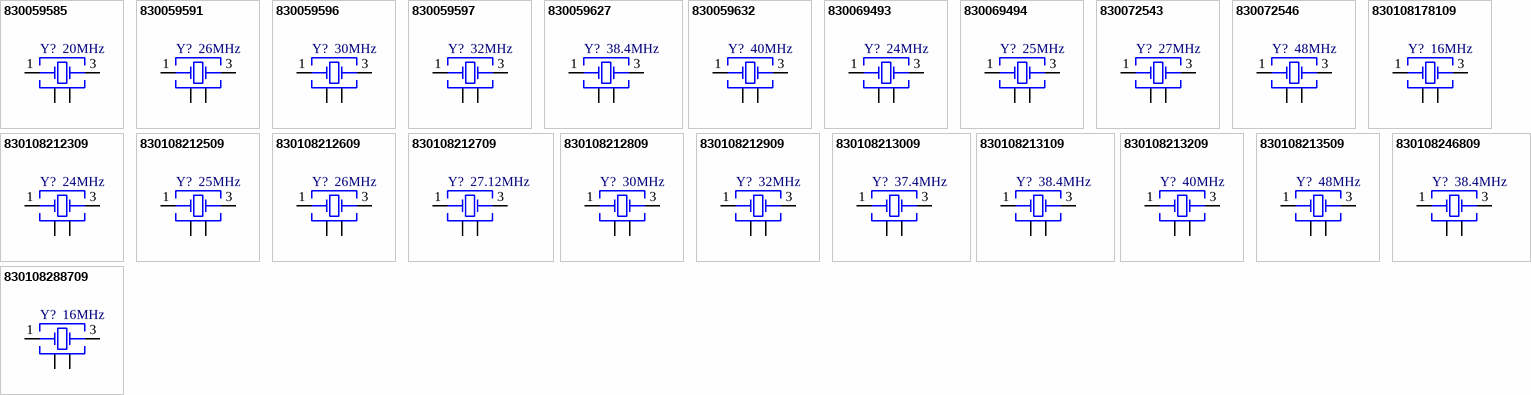
[diagram p14: symbols 830059585 to 830108288709]

## 830059585
designator Y?, comment 20MHz
WE-XTAL Quartz Crystal, SMT, IQXC-42, 20MHz, +/-15ppm; Manufacturer Part Number: 830059585; Manufacturer: Wurth Elektronik; Frequency Stability: +/-20ppm; Load Capacitance: 10pF; ComponentLink1Description: Manufacturer; ComponentLink1URL: http://www.we-online.de; ComponentLink2Description: Datasheet; ComponentLink2URL: https://katalog.we-online.com/pbs/datasheet/830059585.pdf; Operating Temperature: -40 to +85degC; Packaging: Tape and Reel; Published Date: July 2020; Size: IQXC-42; Frequency: 20MHz; Frequency Tolerance: +/-15ppm; Mounting Technology: SMT
footprint WE-XTAL_IQXC-42
pins: 1 Crystal, 2 GND, 3 Crystal, 4 GND

## 830059591
designator Y?, comment 26MHz
WE-XTAL Quartz Crystal, SMT, IQXC-42, 26MHz, +/-15ppm; Manufacturer Part Number: 830059591; Manufacturer: Wurth Elektronik; Frequency Stability: +/-20ppm; Load Capacitance: 10pF; ComponentLink1Description: Manufacturer; ComponentLink1URL: http://www.we-online.de; ComponentLink2Description: Datasheet; ComponentLink2URL: https://katalog.we-online.com/pbs/datasheet/830059591.pdf; Operating Temperature: -40 to +85degC; Packaging: Tape and Reel; Published Date: July 2020; Size: IQXC-42; Frequency: 26MHz; Frequency Tolerance: +/-15ppm; Mounting Technology: SMT
footprint WE-XTAL_IQXC-42
pins: 1 Crystal, 2 GND, 3 Crystal, 4 GND

## 830059596
designator Y?, comment 30MHz
WE-XTAL Quartz Crystal, SMT, IQXC-42, 30MHz, +/-15ppm; Manufacturer Part Number: 830059596; Manufacturer: Wurth Elektronik; Frequency Stability: +/-20ppm; Load Capacitance: 10pF; ComponentLink1Description: Manufacturer; ComponentLink1URL: http://www.we-online.de; ComponentLink2Description: Datasheet; ComponentLink2URL: https://katalog.we-online.com/pbs/datasheet/830059596.pdf; Operating Temperature: -40 to +85degC; Packaging: Tape and Reel; Published Date: July 2020; Size: IQXC-42; Frequency: 30MHz; Frequency Tolerance: +/-15ppm; Mounting Technology: SMT
footprint WE-XTAL_IQXC-42
pins: 1 Crystal, 2 GND, 3 Crystal, 4 GND

## 830059597
designator Y?, comment 32MHz
WE-XTAL Quartz Crystal, SMT, IQXC-42, 32MHz, +/-15ppm; Manufacturer Part Number: 830059597; Manufacturer: Wurth Elektronik; Frequency Stability: +/-20ppm; Load Capacitance: 10pF; ComponentLink1Description: Manufacturer; ComponentLink1URL: http://www.we-online.de; ComponentLink2Description: Datasheet; ComponentLink2URL: https://katalog.we-online.com/pbs/datasheet/830059597.pdf; Operating Temperature: -40 to +85degC; Packaging: Tape and Reel; Published Date: July 2020; Size: IQXC-42; Frequency: 32MHz; Frequency Tolerance: +/-15ppm; Mounting Technology: SMT
footprint WE-XTAL_IQXC-42
pins: 1 Crystal, 2 GND, 3 Crystal, 4 GND

## 830059627
designator Y?, comment 38.4MHz
WE-XTAL Quartz Crystal, SMT, IQXC-42, 38.4MHz, +/-15ppm; Manufacturer Part Number: 830059627; Manufacturer: Wurth Elektronik; Frequency Stability: +/-30ppm; Load Capacitance: 10pF; ComponentLink1Description: Manufacturer; ComponentLink1URL: http://www.we-online.de; ComponentLink2Description: Datasheet; ComponentLink2URL: https://katalog.we-online.com/pbs/datasheet/830059627.pdf; Operating Temperature: -40 to +85degC; Packaging: Tape and Reel; Published Date: July 2020; Size: IQXC-42; Frequency: 38.4MHz; Frequency Tolerance: +/-15ppm; Mounting Technology: SMT
footprint WE-XTAL_IQXC-42
pins: 1 Crystal, 2 GND, 3 Crystal, 4 GND

## 830059632
designator Y?, comment 40MHz
WE-XTAL Quartz Crystal, SMT, IQXC-42, 40MHz, +/-15ppm; Manufacturer Part Number: 830059632; Manufacturer: Wurth Elektronik; Frequency Stability: +/-20ppm; Load Capacitance: 10pF; ComponentLink1Description: Manufacturer; ComponentLink1URL: http://www.we-online.de; ComponentLink2Description: Datasheet; ComponentLink2URL: https://katalog.we-online.com/pbs/datasheet/830059632.pdf; Operating Temperature: -40 to +85degC; Packaging: Tape and Reel; Published Date: July 2020; Size: IQXC-42; Frequency: 40MHz; Frequency Tolerance: +/-15ppm; Mounting Technology: SMT
footprint WE-XTAL_IQXC-42
pins: 1 Crystal, 2 GND, 3 Crystal, 4 GND

## 830069493
designator Y?, comment 24MHz
WE-XTAL Quartz Crystal, SMT, IQXC-42, 24MHz, +/-15ppm; Manufacturer Part Number: 830069493; Manufacturer: Wurth Elektronik; Frequency Stability: +/-20ppm; Load Capacitance: 10pF; ComponentLink1Description: Manufacturer; ComponentLink1URL: http://www.we-online.de; ComponentLink2Description: Datasheet; ComponentLink2URL: https://katalog.we-online.com/pbs/datasheet/830069493.pdf; Operating Temperature: -40 to +85degC; Packaging: Tape and Reel; Published Date: July 2020; Size: IQXC-42; Frequency: 24MHz; Frequency Tolerance: +/-15ppm; Mounting Technology: SMT
footprint WE-XTAL_IQXC-42
pins: 1 Crystal, 2 GND, 3 Crystal, 4 GND

## 830069494
designator Y?, comment 25MHz
WE-XTAL Quartz Crystal, SMT, IQXC-42, 25MHz, +/-15ppm; Manufacturer Part Number: 830069494; Manufacturer: Wurth Elektronik; Frequency Stability: +/-20ppm; Load Capacitance: 10pF; ComponentLink1Description: Manufacturer; ComponentLink1URL: http://www.we-online.de; ComponentLink2Description: Datasheet; ComponentLink2URL: https://katalog.we-online.com/pbs/datasheet/830069494.pdf; Operating Temperature: -40 to +85degC; Packaging: Tape and Reel; Published Date: July 2020; Size: IQXC-42; Frequency: 25MHz; Frequency Tolerance: +/-15ppm; Mounting Technology: SMT
footprint WE-XTAL_IQXC-42
pins: 1 Crystal, 2 GND, 3 Crystal, 4 GND

## 830072543
designator Y?, comment 27MHz
WE-XTAL Quartz Crystal, SMT, IQXC-42, 27MHz, +/-15ppm; Manufacturer Part Number: 830072543; Manufacturer: Wurth Elektronik; Frequency Stability: +/-20ppm; Load Capacitance: 10pF; ComponentLink1Description: Manufacturer; ComponentLink1URL: http://www.we-online.de; ComponentLink2Description: Datasheet; ComponentLink2URL: https://katalog.we-online.com/pbs/datasheet/830072543.pdf; Operating Temperature: -40 to +85degC; Packaging: Tape and Reel; Published Date: July 2020; Size: IQXC-42; Frequency: 27MHz; Frequency Tolerance: +/-15ppm; Mounting Technology: SMT
footprint WE-XTAL_IQXC-42
pins: 1 Crystal, 2 GND, 3 Crystal, 4 GND

## 830072546
designator Y?, comment 48MHz
WE-XTAL Quartz Crystal, SMT, IQXC-42, 48MHz, +/-15ppm; Manufacturer Part Number: 830072546; Manufacturer: Wurth Elektronik; Frequency Stability: +/-20ppm; Load Capacitance: 10pF; ComponentLink1Description: Manufacturer; ComponentLink1URL: http://www.we-online.de; ComponentLink2Description: Datasheet; ComponentLink2URL: https://katalog.we-online.com/pbs/datasheet/830072546.pdf; Operating Temperature: -40 to +85degC; Packaging: Tape and Reel; Published Date: July 2020; Size: IQXC-42; Frequency: 48MHz; Frequency Tolerance: +/-15ppm; Mounting Technology: SMT
footprint WE-XTAL_IQXC-42
pins: 1 Crystal, 2 GND, 3 Crystal, 4 GND

## 830108178109
designator Y?, comment 16MHz
WE-XTAL Quartz Crystal, SMT, IQXC-42, 16MHz, +/-10ppm; Manufacturer Part Number: 830108178109; Manufacturer: Wurth Elektronik; Frequency Stability: +/-20ppm; Load Capacitance: 8pF; ComponentLink1Description: Manufacturer; ComponentLink1URL: http://www.we-online.de; ComponentLink2Description: Datasheet; ComponentLink2URL: https://katalog.we-online.com/pbs/datasheet/830108178109.pdf; Operating Temperature: -40 to +85degC; Packaging: Tape and Reel; Published Date: July 2020; Size: IQXC-42; Frequency: 16MHz; Frequency Tolerance: +/-10ppm; Mounting Technology: SMT
footprint WE-XTAL_IQXC-42
pins: 1 Crystal, 2 GND, 3 Crystal, 4 GND

## 830108212309
designator Y?, comment 24MHz
WE-XTAL Quartz Crystal, SMT, IQXC-42, 24MHz, +/-10ppm; Manufacturer Part Number: 830108212309; Manufacturer: Wurth Elektronik; Frequency Stability: +/-15ppm; Load Capacitance: 8pF; ComponentLink1Description: Manufacturer; ComponentLink1URL: http://www.we-online.de; ComponentLink2Description: Datasheet; ComponentLink2URL: https://katalog.we-online.com/pbs/datasheet/830108212309.pdf; Operating Temperature: -40 to +85degC; Packaging: Tape and Reel; Published Date: July 2020; Size: IQXC-42; Frequency: 24MHz; Frequency Tolerance: +/-10ppm; Mounting Technology: SMT
footprint WE-XTAL_IQXC-42
pins: 1 Crystal, 2 GND, 3 Crystal, 4 GND

## 830108212509
designator Y?, comment 25MHz
WE-XTAL Quartz Crystal, SMT, IQXC-42, 25MHz, +/-10ppm; Manufacturer Part Number: 830108212509; Manufacturer: Wurth Elektronik; Frequency Stability: +/-15ppm; Load Capacitance: 8pF; ComponentLink1Description: Manufacturer; ComponentLink1URL: http://www.we-online.de; ComponentLink2Description: Datasheet; ComponentLink2URL: https://katalog.we-online.com/pbs/datasheet/830108212509.pdf; Operating Temperature: -40 to +85degC; Packaging: Tape and Reel; Published Date: July 2020; Size: IQXC-42; Frequency: 25MHz; Frequency Tolerance: +/-10ppm; Mounting Technology: SMT
footprint WE-XTAL_IQXC-42
pins: 1 Crystal, 2 GND, 3 Crystal, 4 GND

## 830108212609
designator Y?, comment 26MHz
WE-XTAL Quartz Crystal, SMT, IQXC-42, 26MHz, +/-10ppm; Manufacturer Part Number: 830108212609; Manufacturer: Wurth Elektronik; Frequency Stability: +/-15ppm; Load Capacitance: 8pF; ComponentLink1Description: Manufacturer; ComponentLink1URL: http://www.we-online.de; ComponentLink2Description: Datasheet; ComponentLink2URL: https://katalog.we-online.com/pbs/datasheet/830108212609.pdf; Operating Temperature: -40 to +85degC; Packaging: Tape and Reel; Published Date: July 2020; Size: IQXC-42; Frequency: 26MHz; Frequency Tolerance: +/-10ppm; Mounting Technology: SMT
footprint WE-XTAL_IQXC-42
pins: 1 Crystal, 2 GND, 3 Crystal, 4 GND

## 830108212709
designator Y?, comment 27.12MHz
WE-XTAL Quartz Crystal, SMT, IQXC-42, 27.12MHz, +/-10ppm; Manufacturer Part Number: 830108212709; Manufacturer: Wurth Elektronik; Frequency Stability: +/-15ppm; Load Capacitance: 8pF; ComponentLink1Description: Manufacturer; ComponentLink1URL: http://www.we-online.de; ComponentLink2Description: Datasheet; ComponentLink2URL: https://katalog.we-online.com/pbs/datasheet/830108212709.pdf; Operating Temperature: -40 to +85degC; Packaging: Tape and Reel; Published Date: July 2020; Size: IQXC-42; Frequency: 27.12MHz; Frequency Tolerance: +/-10ppm; Mounting Technology: SMT
footprint WE-XTAL_IQXC-42
pins: 1 Crystal, 2 GND, 3 Crystal, 4 GND

## 830108212809
designator Y?, comment 30MHz
WE-XTAL Quartz Crystal, SMT, IQXC-42, 30MHz, +/-10ppm; Manufacturer Part Number: 830108212809; Manufacturer: Wurth Elektronik; Frequency Stability: +/-15ppm; Load Capacitance: 8pF; ComponentLink1Description: Manufacturer; ComponentLink1URL: http://www.we-online.de; ComponentLink2Description: Datasheet; ComponentLink2URL: https://katalog.we-online.com/pbs/datasheet/830108212809.pdf; Operating Temperature: -40 to +85degC; Packaging: Tape and Reel; Published Date: July 2020; Size: IQXC-42; Frequency: 30MHz; Frequency Tolerance: +/-10ppm; Mounting Technology: SMT
footprint WE-XTAL_IQXC-42
pins: 1 Crystal, 2 GND, 3 Crystal, 4 GND

## 830108212909
designator Y?, comment 32MHz
WE-XTAL Quartz Crystal, SMT, IQXC-42, 32MHz, +/-10ppm; Manufacturer Part Number: 830108212909; Manufacturer: Wurth Elektronik; Frequency Stability: +/-15ppm; Load Capacitance: 8pF; ComponentLink1Description: Manufacturer; ComponentLink1URL: http://www.we-online.de; ComponentLink2Description: Datasheet; ComponentLink2URL: https://katalog.we-online.com/pbs/datasheet/830108212909.pdf; Operating Temperature: -40 to +85degC; Packaging: Tape and Reel; Published Date: July 2020; Size: IQXC-42; Frequency: 32MHz; Frequency Tolerance: +/-10ppm; Mounting Technology: SMT
footprint WE-XTAL_IQXC-42
pins: 1 Crystal, 2 GND, 3 Crystal, 4 GND

## 830108213009
designator Y?, comment 37.4MHz
WE-XTAL Quartz Crystal, SMT, IQXC-42, 37.4MHz, +/-10ppm; Manufacturer Part Number: 830108213009; Manufacturer: Wurth Elektronik; Frequency Stability: +/-15ppm; Load Capacitance: 8pF; ComponentLink1Description: Manufacturer; ComponentLink1URL: http://www.we-online.de; ComponentLink2Description: Datasheet; ComponentLink2URL: https://katalog.we-online.com/pbs/datasheet/830108213009.pdf; Operating Temperature: -40 to +85degC; Packaging: Tape and Reel; Published Date: July 2020; Size: IQXC-42; Frequency: 37.4MHz; Frequency Tolerance: +/-10ppm; Mounting Technology: SMT
footprint WE-XTAL_IQXC-42
pins: 1 Crystal, 2 GND, 3 Crystal, 4 GND

## 830108213109
designator Y?, comment 38.4MHz
WE-XTAL Quartz Crystal, SMT, IQXC-42, 38.4MHz, +/-10ppm; Manufacturer Part Number: 830108213109; Manufacturer: Wurth Elektronik; Frequency Stability: +/-15ppm; Load Capacitance: 8pF; ComponentLink1Description: Manufacturer; ComponentLink1URL: http://www.we-online.de; ComponentLink2Description: Datasheet; ComponentLink2URL: https://katalog.we-online.com/pbs/datasheet/830108213109.pdf; Operating Temperature: -40 to +85degC; Packaging: Tape and Reel; Published Date: July 2020; Size: IQXC-42; Frequency: 38.4MHz; Frequency Tolerance: +/-10ppm; Mounting Technology: SMT
footprint WE-XTAL_IQXC-42
pins: 1 Crystal, 2 GND, 3 Crystal, 4 GND

## 830108213209
designator Y?, comment 40MHz
WE-XTAL Quartz Crystal, SMT, IQXC-42, 40MHz, +/-10ppm; Manufacturer Part Number: 830108213209; Manufacturer: Wurth Elektronik; Frequency Stability: +/-15ppm; Load Capacitance: 8pF; ComponentLink1Description: Manufacturer; ComponentLink1URL: http://www.we-online.de; ComponentLink2Description: Datasheet; ComponentLink2URL: https://katalog.we-online.com/pbs/datasheet/830108213209.pdf; Operating Temperature: -40 to +85degC; Packaging: Tape and Reel; Published Date: July 2020; Size: IQXC-42; Frequency: 40MHz; Frequency Tolerance: +/-10ppm; Mounting Technology: SMT
footprint WE-XTAL_IQXC-42
pins: 1 Crystal, 2 GND, 3 Crystal, 4 GND

## 830108213509
designator Y?, comment 48MHz
WE-XTAL Quartz Crystal, SMT, IQXC-42, 48MHz, +/-10ppm; Manufacturer Part Number: 830108213509; Manufacturer: Wurth Elektronik; Frequency Stability: +/-15ppm; Load Capacitance: 8pF; ComponentLink1Description: Manufacturer; ComponentLink1URL: http://www.we-online.de; ComponentLink2Description: Datasheet; ComponentLink2URL: https://katalog.we-online.com/pbs/datasheet/830108213509.pdf; Operating Temperature: -40 to +85degC; Packaging: Tape and Reel; Published Date: July 2020; Size: IQXC-42; Frequency: 48MHz; Frequency Tolerance: +/-10ppm; Mounting Technology: SMT
footprint WE-XTAL_IQXC-42
pins: 1 Crystal, 2 GND, 3 Crystal, 4 GND